# EAGLE library part PCM3001E (library burr-brown)
SoundPlus(TM) Stereo Audio Codec 18-bits, Serial Interface
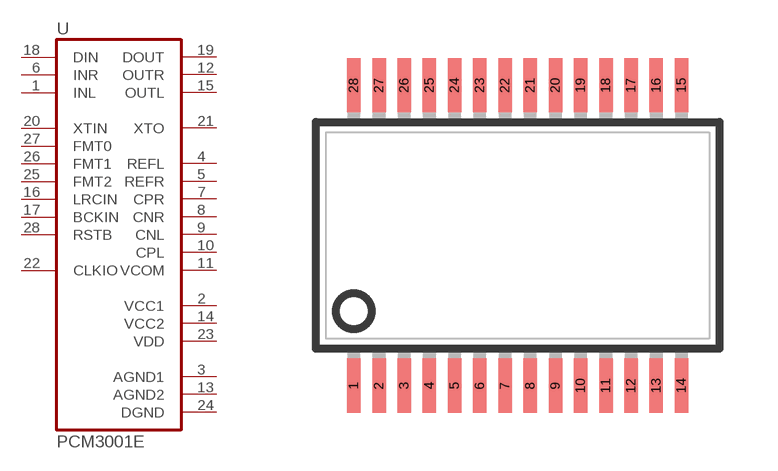
[diagram p109: symbol with the pads of SSOP28BU; footprint SSOP28BU]

Designator prefix U

## PCM3001E  [SSOP28BU]
1  INL  in
2  VCC1  pwr
3  AGND1  pwr
4  REFL  pas
5  REFR  pas
6  INR  in
7  CPR  pas
8  CNR  pas
9  CNL  pas
10  CPL  pas
11  VCOM  pas
12  OUTR  out
13  AGND2  pwr
14  VCC2  pwr
15  OUTL  out
16  LRCIN  in
17  BCKIN  in
18  DIN  in
19  DOUT  out
20  XTIN  in
21  XTO  out
22  CLKIO
23  VDD  pwr
24  DGND  pwr
25  FMT2  in
26  FMT1  in
27  FMT0  in
28  RSTB  in

## Footprint SSOP28BU (pad centres in mm)
Small Shrink Outline Package
smd 0.348 x 1.397: 1 -4.225,-3.875; 2 -3.575,-3.875; 3 -2.925,-3.875; 4 -2.275,-3.875; 5 -1.625,-3.875; 6 -0.975,-3.875; 7 -0.325,-3.875; 8 0.325,-3.875; 9 0.975,-3.875; 10 1.625,-3.875; 11 2.275,-3.875; 12 2.925,-3.875; 13 3.575,-3.875; 14 4.225,-3.875; 15 4.225,3.875; 16 3.575,3.875; 17 2.925,3.875; 18 2.275,3.875; 19 1.625,3.875; 20 0.975,3.875; 21 0.325,3.875; 22 -0.325,3.875; 23 -0.975,3.875; 24 -1.625,3.875; 25 -2.275,3.875; 26 -2.925,3.875; 27 -3.575,3.875; 28 -4.225,3.875